# EAGLE library part AD9833 (library ad9833)
Digitally programmable frequency and phase waveform generator.
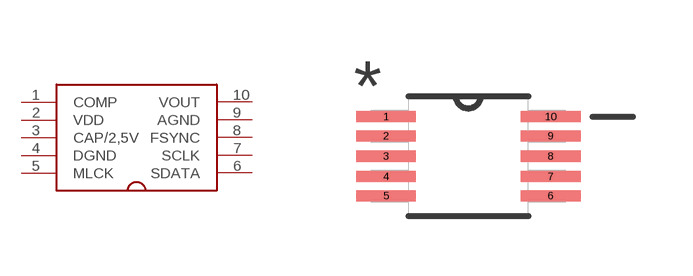
[diagram p0: symbol with the pads of MSOP10; footprint MSOP10]

Designator prefix IC

## AD9833  [MSOP10]
1  COMP  in
2  VDD  pwr
3  CAP/2,5V
4  DGND  pwr
5  MLCK  in
6  SDATA  in
7  SCLK  in
8  FSYNC  in
9  AGND  pwr
10  VOUT  out

## Footprint MSOP10 (pad centres in mm)
smd 1.499 x 0.279: 1 -2.057,0.991; 2 -2.057,0.508; 3 -2.057,0; 4 -2.057,-0.508; 5 -2.057,-0.991; 6 2.057,-0.991; 7 2.057,-0.508; 8 2.057,0; 9 2.057,0.508; 10 2.057,0.991